# Altium footprint library HEXCAL_PCB_LIB.PcbLib: 209 footprints (part 8 of 14)
Each footprint in its own frame and in the unit in brackets; x right, y up, seen from the top. Pads: shape width x height; smd on the part's side, far side on the other; paste and mask are expansions set on the pad; w line width, h text height; cw(c..) or ccw(c..) is an arc to the next point about the centre after c.
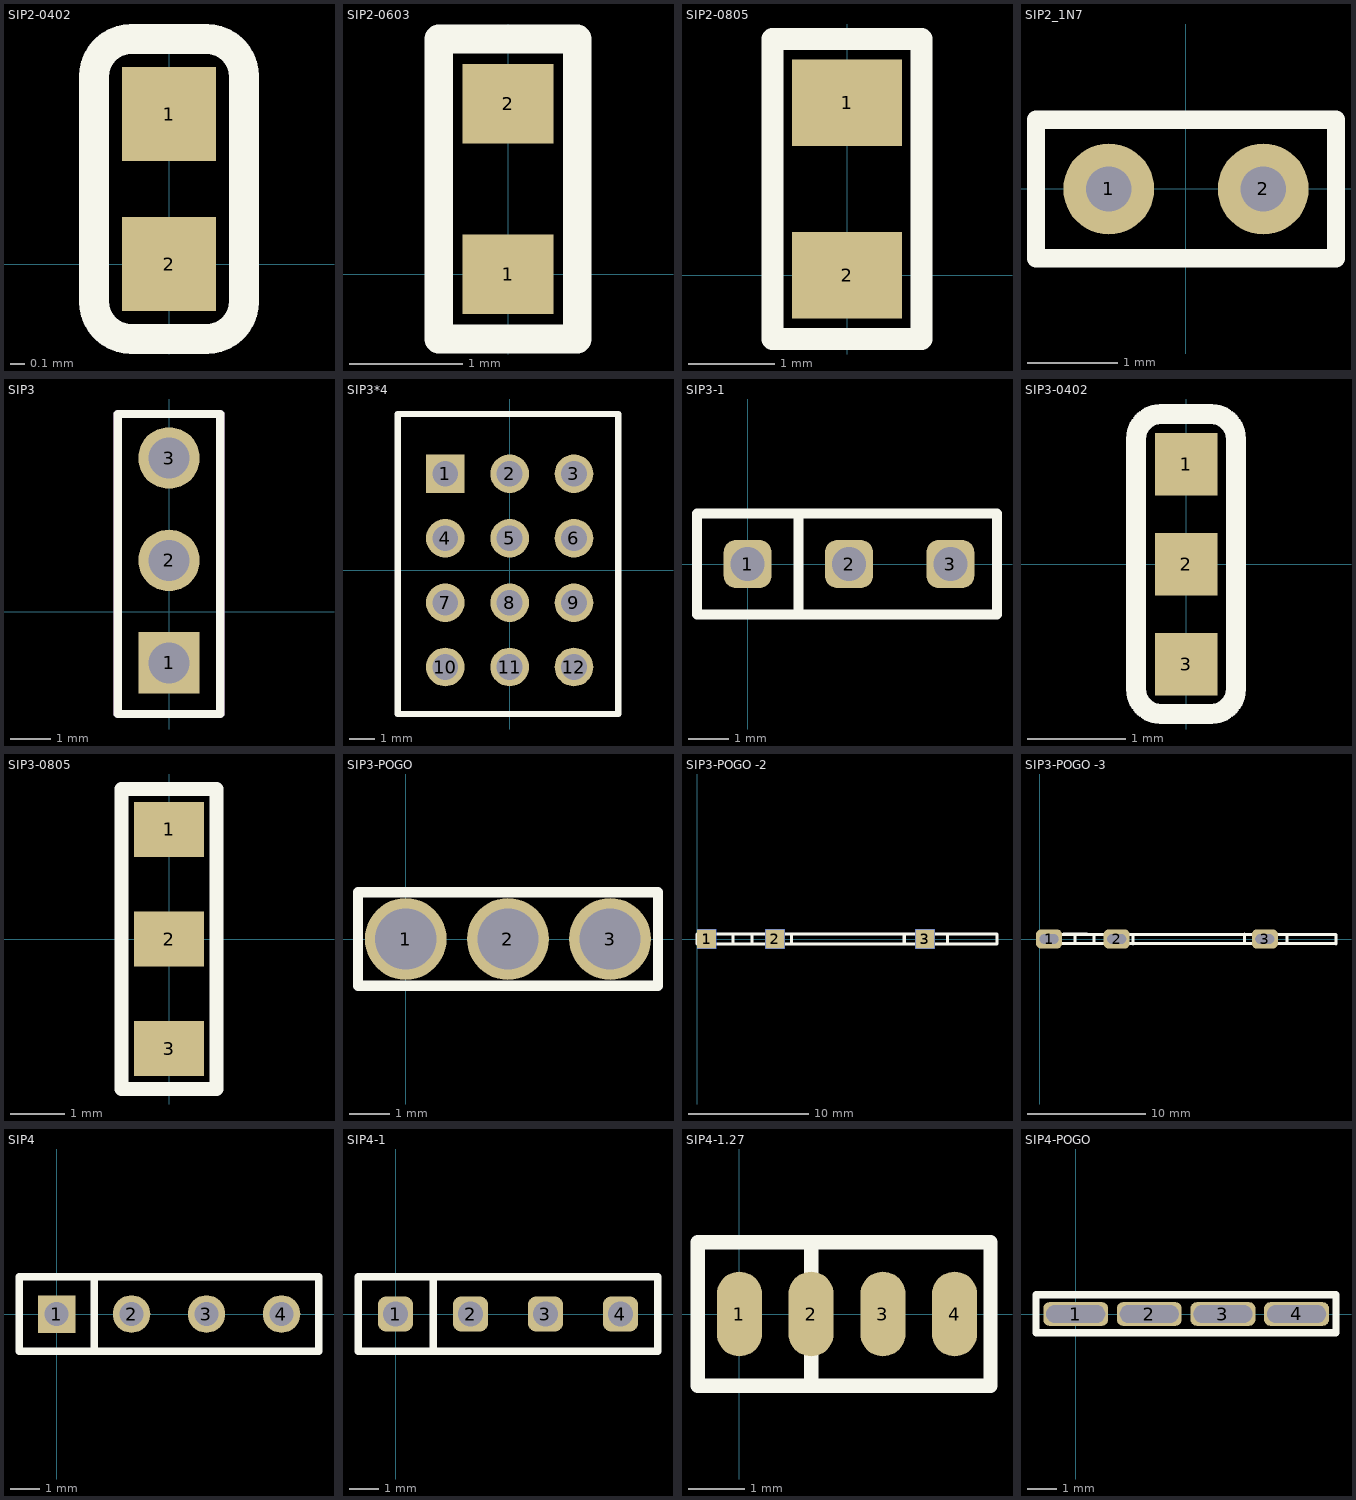
[diagram p7: the footprints below, top view; thin cyan lines are the x and y axes]

## SIP2-0402 [mil]
pads (2):
  rect 25x25 smd: 1(0,40) 2(0,0)
Top Overlay:
  lines w8: -20,-10 ccw(c-10,-10) -10,-20 10,-20 ccw(c10,-10) 20,-10 20,50 ccw(c10,50) 10,60 -10,60 ccw(c-10,50) -20,50 -20,-10

## SIP2-0603 [mm]
pads (2):
  rect 0.8x0.7 smd: 1(0,0) 2(0,1.5)
Top Overlay:
  lines w0.254: -0.61,-0.571 0.61,-0.571 0.61,2.071 -0.61,2.071 -0.61,-0.571

## SIP2-0805 [mm]
pads (2):
  rect 1.27x1 smd: 1(0,2) 2(0,0)
Top Overlay:
  lines w0.254: -0.864,-0.737 -0.864,-0.349 -0.864,2.737 0.864,2.737 0.864,-0.349 0.864,-0.737 -0.864,-0.737

## SIP2_1N7 [mm]
pads (2):
  round 1 hole 0.5: 1(-0.85,0) 2(0.85,0)
Top Overlay:
  lines w0.2: -1.651,-0.762 1.651,-0.762 1.651,0.762 -1.651,0.762 -1.651,0.635 -1.651,-0.762

## SIP3 [mil]
pads (3):
  rect 60x60 hole 40: 1(0,-50)
  round 60 hole 40: 2(0,50) 3(0,150)
Top Overlay:
  lines w8: -50,-100 -50,193 50,193 50,-100 -50,-100
Mechanical 7:
  lines w8: -50,-100 50,-100 50,193 -50,193 -50,-100

## SIP3*4 [mil]
pads (12):
  rect 60x60 hole 40: 1(-100,150)
  round 60 hole 40: 2(0,150) 3(100,150) 4(-100,50) 5(0,50) 6(100,50) 7(-100,-50) 8(0,-50) 9(100,-50) 10(-100,-150) 11(0,-150) 12(100,-150)
Top Overlay:
  lines w10: -174,-223 -174,243 169,243 169,-223 -174,-223

## SIP3-1 [mm]
pads (3):
  rrect50% 1.2x1.2 hole 0.85: 1(0,0) 2(2.54,0) 3(5.08,0)
Top Overlay:
  lines w0.254: 1.27,-1.27 1.27,1.27 ; -1.27,-1.27 -1.27,1.27 6.248,1.27 6.248,-1.27 -1.27,-1.27

## SIP3-0402 [mil]
pads (3):
  rect 25x25 smd: 1(0,40) 2(0,0) 3(0,-40)
Top Overlay:
  lines w8: -20,-10 -20,50 cw(c-10,50) -10,60 10,60 cw(c10,50) 20,50 20,-10 ; -20,10 -20,-50 ccw(c-10,-50) -10,-60 10,-60 ccw(c10,-50) 20,-50 20,10

## SIP3-0805 [mm]
pads (3):
  rect 1.27x1 smd: 1(0,2) 2(0,0) 3(0,-2)
Top Overlay:
  lines w0.254: -0.864,-2.737 -0.864,-0.349 -0.864,2.737 0.864,2.737 0.864,-0.349 0.864,-2.737 -0.864,-2.737

## SIP3-POGO [mm]
pads (3):
  round 2 hole 1.5: 1(0,0) 2(2.5,0) 3(5,0)
Top Overlay:
  lines w0.254: 0,-0.15 0,0.15 ; -1.168,-1.143 6.172,-1.143 6.172,1.143 -1.168,1.143 -1.168,-1.143

## SIP3-POGO -2 [mm]
pads (6):
  rect 1.6x1.6 smd: 1(0.8,0) 2(6.5,0) 3(19,0)
  rect 1.6x1.6 smd far side: 1(0.8,0) 2(6.5,0) 3(19,0)
Top Overlay:
  drawing of 211 lines, arcs and shapes, not listed

## SIP3-POGO -3 [mm]
pads (3):
  rrect50% 2.2x1.6 hole 0.8 slot 1.6 at 0 deg: 1(0.8,0) 2(6.5,0) 3(19,0)
Top Overlay:
  drawing of 211 lines, arcs and shapes, not listed

## SIP4 [mil]
pads (4):
  rect 50x50 hole 32: 1(0,0)
  round 50 hole 32: 2(100,0) 3(200,0) 4(300,0)
Top Overlay:
  lines w10: 50,-50 50,50 ; -50,-50 -50,50 350,50 350,-50 -50,-50

## SIP4-1 [mm]
pads (4):
  rrect50% 1.2x1.2 hole 0.85: 1(0,0) 2(2.54,0) 3(5.08,0) 4(7.62,0)
Top Overlay:
  lines w0.254: 1.27,-1.27 1.27,1.27 ; -1.27,-1.27 -1.27,1.27 8.89,1.27 8.89,-1.27 -1.27,-1.27

## SIP4-1.27 [mm]
pads (4):
  oval 0.8x1.5 smd: 1(0,0) 2(1.27,0) 3(2.54,0) 4(3.81,0)
Top Overlay:
  lines w0.254: 1.27,-1.27 1.27,1.27 ; -0.737,-1.27 -0.737,1.27 4.445,1.27 4.445,-1.27 -0.737,-1.27

## SIP4-POGO [mm]
pads (4):
  rrect50% 2.2x0.8 hole 0.6 slot 2 at 0 deg: 1(0,0) 2(2.5,0) 3(5,0) 4(7.5,0)
Top Overlay:
  lines w0.254: 0,-0.15 0,0.15 ; -1.346,-0.635 8.839,-0.635 8.839,0.66 -1.346,0.66 -1.346,-0.635
Mechanical 2:
  lines w0.254: -0.6,-0.15 -0.6,0.15 ; -0.6,-0.15 0.6,-0.15 ; -0.6,-0.15 0.6,-0.15 ; -0.6,-0.15 -0.6,0.15 ; -0.6,0.15 0.6,0.15 ; -0.6,0.15 0.6,0.15 ; 0.6,-0.15 0.6,0.15 ; 0.6,-0.15 0.6,0.15 ; 1.9,-0.15 1.9,0.15 3.1,0.15 3.1,-0.15 1.9,-0.15 ; 4.4,-0.15 4.4,0.15 5.6,0.15 5.6,-0.15 4.4,-0.15 ; 6.9,-0.15 6.9,0.15 8.1,0.15 8.1,-0.15 6.9,-0.15